# Altium footprint library Powerboard in ROV V1.0.PcbLib: 8 footprints
Each footprint in its own frame and in the unit in brackets; x right, y up, seen from the top. Pads: shape width x height; smd on the part's side, far side on the other; paste and mask are expansions set on the pad; w line width, h text height; cw(c..) or ccw(c..) is an arc to the next point about the centre after c.
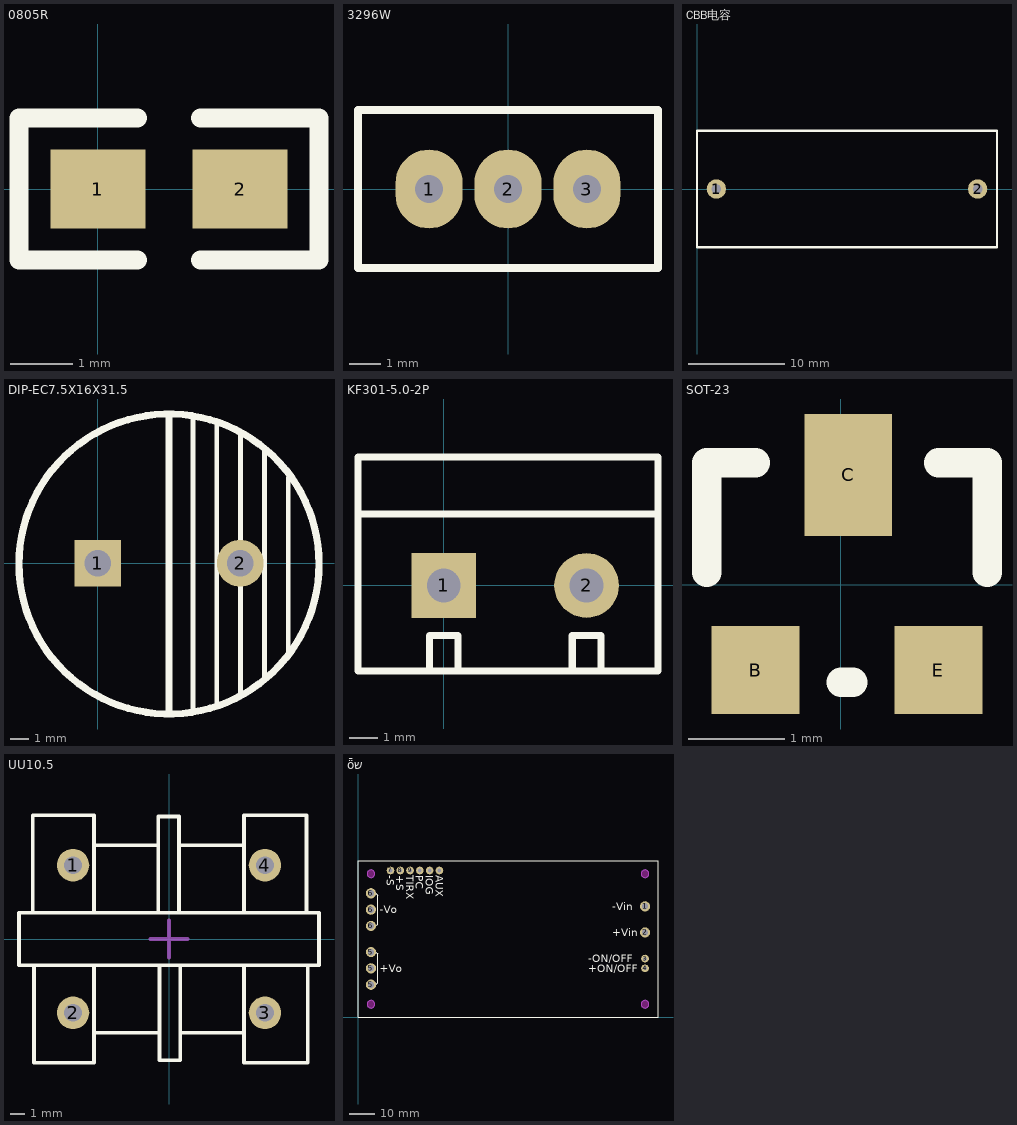
[diagram p0: the footprints below, top view; thin cyan lines are the x and y axes]

## 0805R [mil]
pads (2):
  rect 60x50 smd: 1(0,0) 2(90,0)
Top Overlay:
  lines w12: 25,-45 -50,-45 -50,45 25,45 ; 65,-45 140,-45 140,45 65,45
3D body "RES0805.STEP": height 15, standoff -1.14, extent 1.26,-24.6 80,24.61

## 3296W [mil]
pads (3):
  oval 85x100 hole 35: 1(-100,0) 2(0,0) 3(100,0)
Top Overlay:
  lines w10: -190,-100 190,-100 190,100 -190,100 -190,-100
3D body "User Library-3296W.step": height 454.72, standoff -62.99, extent -187.6,-94.49 187.6,94.49

## CBB电容 [mm]
pads (2):
  round 2 hole 1: 1(2,0) 2(29,0)
Top Overlay:
  lines w0.254: 0,-6 31,-6 31,6 0,6 0,-6
3D body "User Library-CBB81_W31_0_H20_5_T12_0_P27_0.STEP": height 23.5, standoff -10, extent 0,-6 30.997,6

## DIP-EC7.5X16X31.5 [mm]
pads (2):
  rect 2.5x2.5 hole 1.4: 1(0,0)
  round 2.5 hole 1.4: 2(7.6,0)
Top Overlay:
  circle w0.381: c3.8,-0.038 r8
  lines w0.254: 5.08,-7.874 5.08,7.874 ; 6.35,-7.62 6.35,7.62 ; 7.62,-7.112 7.62,6.858 ; 8.89,-6.096 8.89,6.096 ; 10.16,-4.826 10.16,4.572
  lines w0.381: 3.8,-8.001 3.8,7.925
3D body "CAP 7.5X16X31.5.STEP": height 31.53, standoff -3.38, extent -4.191,-7.872 11.819,8.126

## KF301-5.0-2P [mm] "可拼接端子/6A"
pads (2):
  rect 2.3x2.3 hole 1.2: 1(0,0)
  round 2.3 hole 1.2: 2(5.08,0)
Top Overlay:
  lines w0.254: -3.048,2.54 7.62,2.54 ; -0.508,-3.048 -0.508,-1.778 0.508,-1.778 0.508,-3.048 ; 4.572,-3.048 4.572,-1.778 5.588,-1.778 5.588,-3.048 ; -3.048,-3.048 -3.048,4.572 7.62,4.572 7.62,-3.048 -3.048,-3.048
3D body "KF301-5.0.STEP": height 10.05, standoff -3.75, extent -2.997,-3.089 2.503,4.511
3D body "KF301-5.0.STEP": height 10.05, standoff -3.75, extent 2.003,-3.089 7.503,4.511

## SOT-23 [mil]
pads (3):
  rect 36x36 smd: B(-35,-35) E(40,-35)
  rect 36x50 smd: C(3,45)
Top Overlay:
  lines w12: -55,5 -55,50 -35,50 ; 0,-40 5,-40 ; 40,50 60,50 60,5
3D body "SOT-23-3.STEP": height 47.24, standoff 0, extent -54.08,-48.11 60.09,62.12

## UU10.5 [mm] "18*16*20mm(长宽高）"
pads (4):
  round 2.2 hole 1.2: 1(-6.5,5) 2(-6.5,-5) 3(6.5,-5) 4(6.5,5)
Top Overlay:
  lines w0.254: -9.229,1.904 -9.229,8.382 -5.08,8.382 -5.08,1.904 ; -9.144,-1.81 -9.144,-8.382 -5.08,-8.382 -5.08,-1.81 ; -5.08,-6.35 -0.638,-6.35 ; -5.08,6.35 -0.723,6.35 ; -0.723,1.904 -0.723,8.304 0.677,8.304 0.677,1.904 ; -0.638,-1.81 -0.638,-8.21 0.762,-8.21 0.762,-1.81 ; 0.677,6.35 5.08,6.35 ; 0.762,-6.35 5.08,-6.35 ; 5.08,-1.904 5.08,-8.382 9.398,-8.382 9.398,-1.904 ; 5.08,1.904 5.08,8.382 9.313,8.382 9.313,1.904 ; -10.16,-1.778 -10.16,1.778 10.16,1.778 10.16,-1.778 -10.16,-1.778
Mechanical 15:
  lines w0.254: -1.27,0 1.27,0 ; 0,-1.27 0,1.27
3D body "UU10.5.STEP": height 21.05, standoff -3.45, extent -9.398,-8 9.402,8

## ȫש [mm]
height 12.7
pads (16):
  round 4 hole 2.5: 1(111.75,43.2) 2(111.75,33.04) 5(5.06,12.72) 5(5.06,19.07) 5(5.06,25.42) 6(5.05,35.58) 6(5.05,41.93) 6(5.05,48.28)
  round 3 hole 1.4: 3(111.75,22.88) 4(111.75,19.07) 7(12.65,57.17) 8(16.46,57.17) 9(20.27,57.17) 10(24.08,57.17) 11(27.89,57.17) 12(31.7,57.17)
Top Overlay:
  lines w0.254: 6.965,12.72 7.717,13.472 7.717,24.668 6.965,25.42 ; 6.977,35.58 7.729,36.332 7.729,47.528 6.977,48.28 ; 0,0 0,61 116.8,61 116.8,0 0,0
  text "+Vo" at 8.549,17.57 h3
  text "-Vo" at 8.549,40.43 h3
  text "-S" at 11.15,55.245 h3
  text "+S" at 14.96,55.245 h3
  text "TIRX" at 18.77,55.245 h3
  text "PC" at 22.58,55.245 h3
  text "IOG" at 26.39,55.245 h3
  text "AUX" at 30.2,55.245 h3
  text "+ON/OFF" at 89.575,17.57 h3
  text "-ON/OFF" at 89.575,21.38 h3
  text "+Vin" at 99.072,31.54 h3
  text "-Vin" at 99.072,41.7 h3
Keep-Out Layer:
  board cut-out: 111.75,3.6 111.898,3.6 112.188,3.658 112.461,3.771 112.706,3.935 112.915,4.144 113.079,4.389 113.192,4.662 113.25,4.952 113.25,5.1 113.25,5.248 113.192,5.538 113.079,5.811 112.915,6.056 112.706,6.265 112.461,6.429 112.188,6.542 111.898,6.6 111.75,6.6 111.602,6.6 111.312,6.542 111.039,6.429 110.794,6.265 110.585,6.056 110.421,5.811 110.308,5.538 110.25,5.248 110.25,5.1 110.25,4.952 110.308,4.662 110.421,4.389 110.585,4.144 110.794,3.935 111.039,3.771 111.312,3.658 111.602,3.6
  board cut-out: 111.75,54.4 111.898,54.4 112.188,54.458 112.461,54.571 112.706,54.735 112.915,54.944 113.079,55.189 113.192,55.462 113.25,55.752 113.25,55.9 113.25,56.048 113.192,56.338 113.079,56.611 112.915,56.856 112.706,57.065 112.461,57.229 112.188,57.342 111.898,57.4 111.75,57.4 111.602,57.4 111.312,57.342 111.039,57.229 110.794,57.065 110.585,56.856 110.421,56.611 110.308,56.338 110.25,56.048 110.25,55.9 110.25,55.752 110.308,55.462 110.421,55.189 110.585,54.944 110.794,54.735 111.039,54.571 111.312,54.458 111.602,54.4
  board cut-out: 6.55,55.9 6.55,55.752 6.492,55.462 6.379,55.189 6.215,54.944 6.006,54.735 5.761,54.571 5.488,54.458 5.198,54.4 5.05,54.4 4.902,54.4 4.612,54.458 4.339,54.571 4.094,54.735 3.885,54.944 3.721,55.189 3.608,55.462 3.55,55.752 3.55,55.9 3.55,56.048 3.608,56.338 3.721,56.611 3.885,56.856 4.094,57.065 4.339,57.229 4.612,57.342 4.902,57.4 5.05,57.4 5.198,57.4 5.488,57.342 5.761,57.229 6.006,57.065 6.215,56.856 6.379,56.611 6.492,56.338 6.55,56.048
  board cut-out: 6.55,5.1 6.55,4.952 6.492,4.662 6.379,4.389 6.215,4.144 6.006,3.935 5.761,3.771 5.488,3.658 5.198,3.6 5.05,3.6 4.902,3.6 4.612,3.658 4.339,3.771 4.094,3.935 3.885,4.144 3.721,4.389 3.608,4.662 3.55,4.952 3.55,5.1 3.55,5.248 3.608,5.538 3.721,5.811 3.885,6.056 4.094,6.265 4.339,6.429 4.612,6.542 4.902,6.6 5.05,6.6 5.198,6.6 5.488,6.542 5.761,6.429 6.006,6.265 6.215,6.056 6.379,5.811 6.492,5.538 6.55,5.248
Mechanical 1:
  circle w0.254: c111.75,5.1 r1.5
  circle w0.254: c111.75,55.9 r1.5
  circle w0.254: c5.05,55.9 r1.5
  circle w0.254: c5.05,5.1 r1.5
3D body "全砖模块电源.step": height 12.7, standoff -5, extent 0,0 116.8,61
3D body: height 0.25, standoff 0, extent 116.8,0 116.8,0
3D body: height 0.25, standoff 0, extent 70.572,29.718 70.572,29.718
3D body: height 0.25, standoff 0, extent 116.8,0 116.8,0
3D body: height 0.25, standoff 0, extent 116.8,0 116.8,0
3D body: height 0.25, standoff 0, extent 116.8,0 116.8,0